# EAGLE library part AD799X (library KwanSystems)
I2C Analog-to-Digital Converter
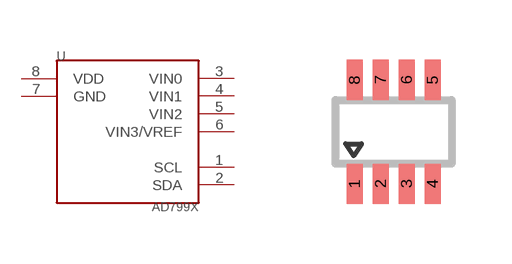
[diagram p21: symbol with the pads of SOT-23-8; footprint SOT-23-8]

Designator prefix -

## AD799X  [SOT-23-8]
1  SCL
2  SDA
3  VIN0
4  VIN1
5  VIN2
6  VIN3/VREF
7  GND
8  VDD

## Footprint SOT-23-8 (pad centres in mm)
smd 0.4 x 1: 1 -0.975,-1.3; 2 -0.325,-1.3; 3 0.325,-1.3; 4 0.975,-1.3; 5 0.975,1.3; 6 0.325,1.3; 7 -0.325,1.3; 8 -0.975,1.3